# Altium schematic symbol library Components - 29.08.24 - 16.00.SchLib: 1 symbol
Pins are listed as number, name and electrical type; pins without a type are passive.

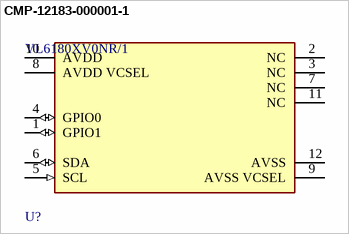
[diagram p0: symbol CMP-12183-000001-1]

## CMP-12183-000001-1
designator U?, comment VL6180XV0NR/1
SENSOR OPT AMBIENT 12SMD; Max Supply Voltage: 3V; Sensing Distance: 100mm; Output Type: I2C; Min Supply Voltage: 2.6V; Max Operating Temperature: 70°C; Packaging: Tape and Reel; REACH SVHC: No SVHC; Mount: Surface Mount; Number of Pins: 12; RoHS Compliant: Yes; Case/Package: LGA; Min Operating Temperature: -10°C; Lead Free: Lead Free
footprint FP-VL6180XV0NR-1-MFG
pins: 1 GPIO1 (io), 2 NC, 3 NC, 4 GPIO0 (io), 5 SCL (in), 6 SDA (io), 7 NC, 8 AVDD VCSEL (power), 9 AVSS VCSEL (power), 10 AVDD (power), 11 NC, 12 AVSS (power)